# Altium schematic symbol library SRR1260-680M.SchLib: 1 symbol
Pins are listed as number, name and electrical type; pins without a type are passive.

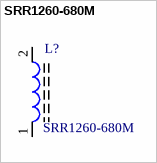
[diagram p0: symbol SRR1260-680M]

## SRR1260-680M
designator L?
Ind Power Shielded Wirewound 68uH 20% 100KHz 22Q-Factor Ferrite 2.1A T/R; MF: Bourns; SnapEDA_Link: https://www.snapeda.com/parts/SRR1260-680M/Bourns/view-part/?ref=snap; Availability: Unavailable; Price: None; MP: SRR1260-680M; Package: Nonstandard Bourns; Value: *
footprint INDP125125X600N
pins: 1, 2